# Altium schematic symbol library PBL4_GR4_SchLib.SchLib: 62 symbols
Pins are listed as number, name and electrical type; pins without a type are passive.

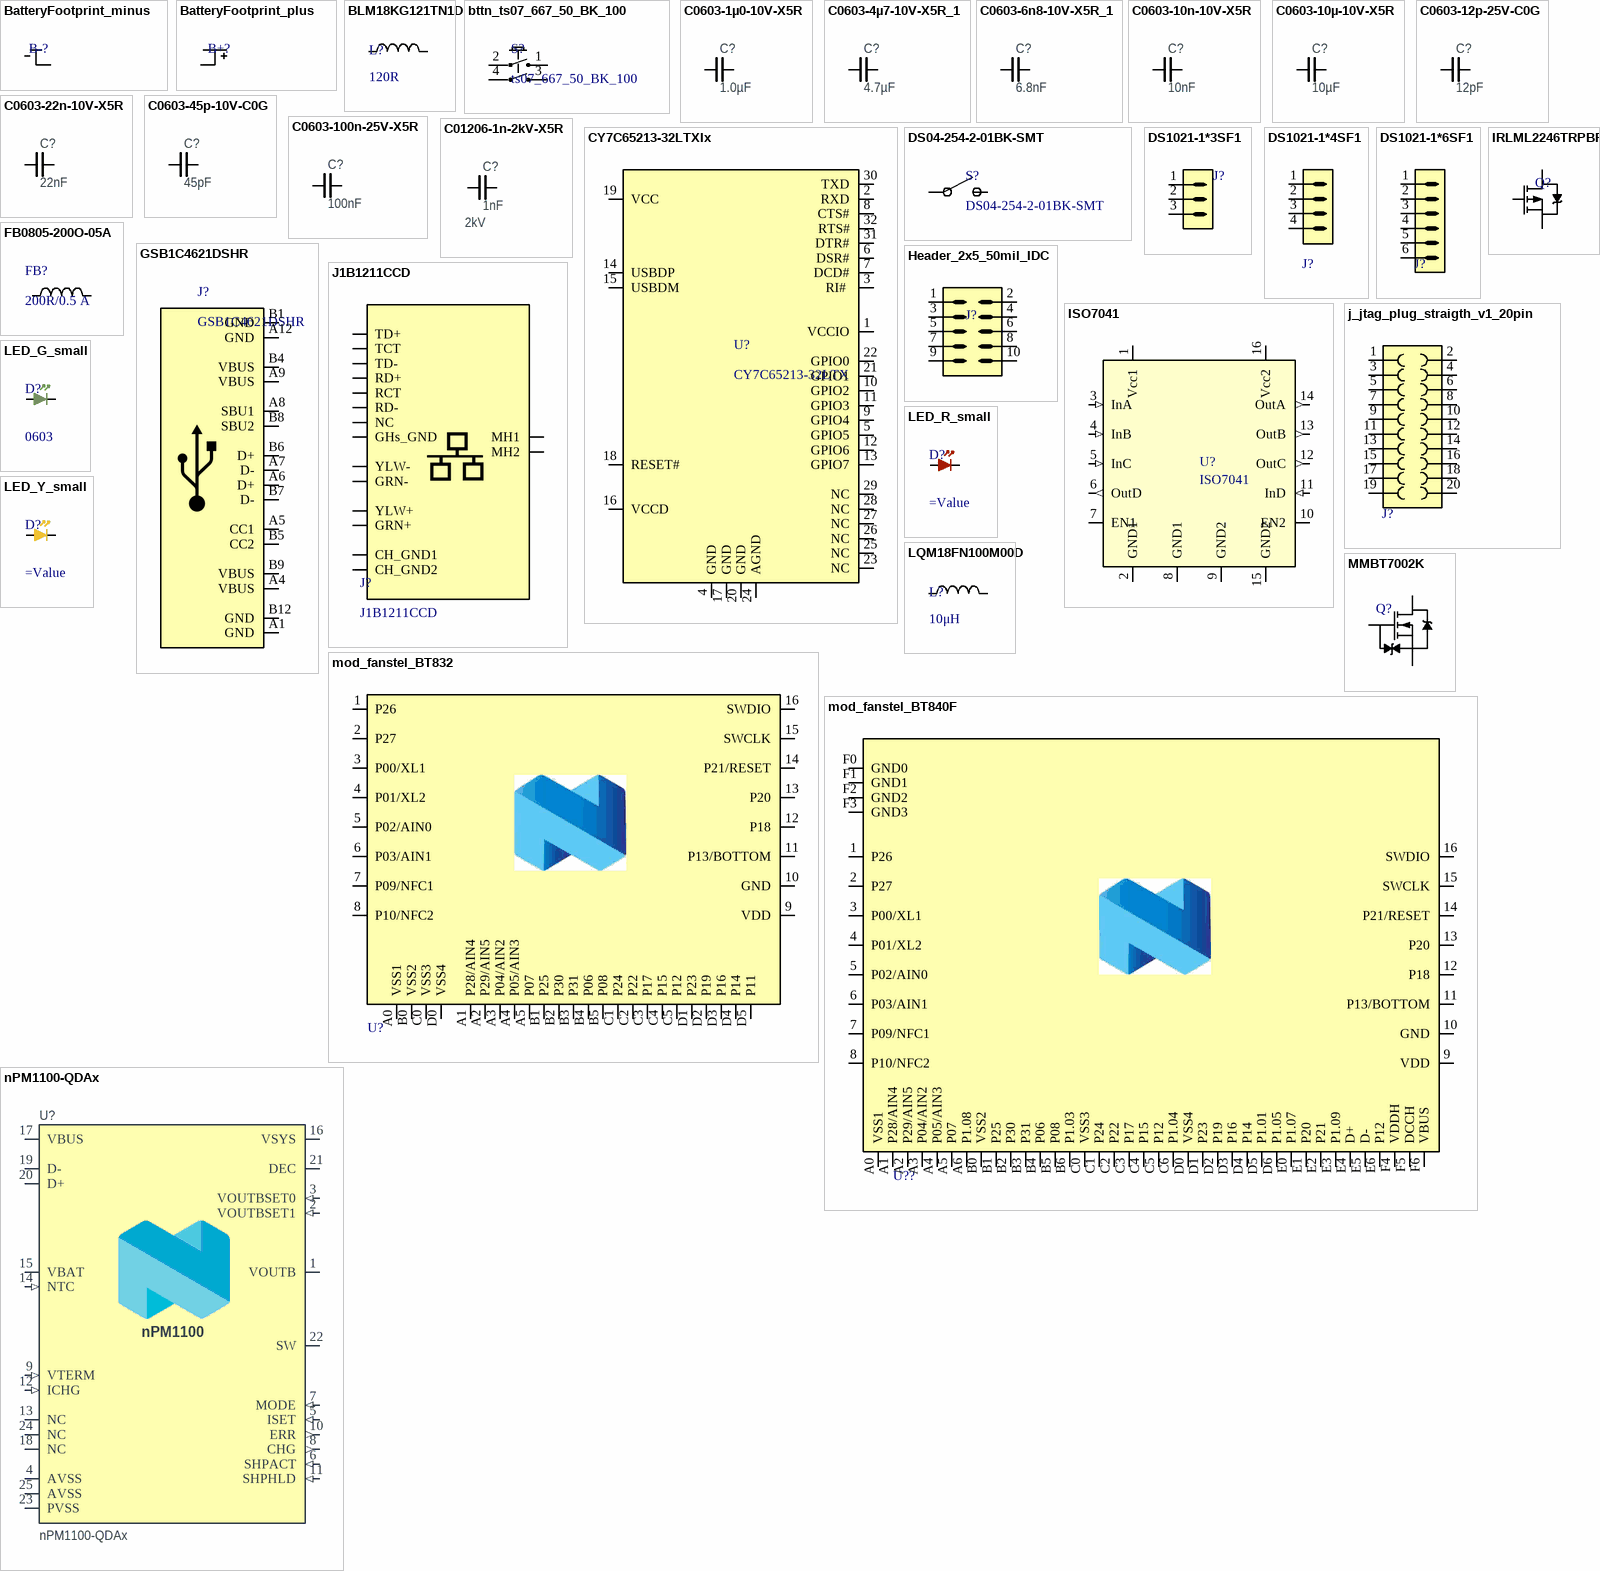
[diagram p0: symbols BatteryFootprint_minus to nPM1100-QDAx]

## BatteryFootprint_minus
designator B-?
pins: 1 -

## BatteryFootprint_plus
designator B+?
footprint 254TR
pins: 1 -

## BLM18KG121TN1D
designator L?, comment 120R
Inductor
footprint 0603_EMI_Reflow
pins: 1, 2

## bttn_ts07_667_50_BK_100
designator S?, comment ts07_667_50_BK_100
footprint SW_TS07-667-50-BK-XXX-SMT-TR
pins: 1, 2, 3, 4

## C0603-1µ0-10V-X5R
designator C?, comment 1.0µF
Capacitor, Ceramic, 1.0µF 10V X5R 0603,±10%; Part Number: C0603-1µ0-10V-X5R; Manufacturer: N.A.; Part number NEMS: 100200528; Pad Count: 2; Component Status: Active; Manufacturer Part Number: N.A.; Footprint Doc: 0603; LatestRevisionDate: 2022-10-06; Published: 2022-10-06; Value: 1.0µF; Note: 10V; Artikkelnr Noca: N.A.; Part number IPS: N.A.; ComponentLink1URL: N.A.; ComponentLink1Description: Datasheet; ComponentLink2URL: N.A.; ComponentLink2Description: Supplier link; HelpURL: N.A.; Supplier 1: N.A.; Supplier Part Number 1: N.A.; Supplier 2: N.A.; Supplier Part Number 2: N.A.; Component Class: Capacitors; PartId: 100200528; Author: getr; Part number Norautron: N.A.
footprint 0603_CAP_Reflow
pins: 1, 2

## C0603-4µ7-10V-X5R_1
designator C?, comment 4.7µF
Capacitor, Ceramic, 4.7µF 10V X5R 0603,±10%; Part Number: C0603-1µ0-10V-X5R; Manufacturer: N.A.; Part number NEMS: 100200528; Pad Count: 2; Component Status: Active; Manufacturer Part Number: N.A.; Footprint Doc: 0603; LatestRevisionDate: 2022-10-06; Published: 2022-10-06; Value: 4.7µF; Note: 10V; Artikkelnr Noca: N.A.; Part number IPS: N.A.; ComponentLink1URL: N.A.; ComponentLink1Description: Datasheet; ComponentLink2URL: N.A.; ComponentLink2Description: Supplier link; HelpURL: N.A.; Supplier 1: N.A.; Supplier Part Number 1: N.A.; Supplier 2: N.A.; Supplier Part Number 2: N.A.; Component Class: Capacitors; PartId: 100200528; Author: getr; Part number Norautron: N.A.
footprint 0603_CAP_Reflow
pins: 1, 2

## C0603-6n8-10V-X5R_1
designator C?, comment 6.8nF
Capacitor, Ceramic, X5R, ±20%, 10V; ComponentLink1URL: N.A.; ComponentLink1Description: Datasheet; ComponentLink2URL: N.A.; ComponentLink2Description: Supplier link; Value: 6.8nF; Voltage: 10V; Author: rubr
footprint 0603_CAP_Reflow
pins: 1, 2

## C0603-10n-10V-X5R
designator C?, comment 10nF
Capacitor, Ceramic, X5R, ±20%, 10V; ComponentLink1URL: N.A.; ComponentLink1Description: Datasheet; ComponentLink2URL: N.A.; ComponentLink2Description: Supplier link; Value: 10nF; Voltage: 10V; Author: rubr
footprint 0603_CAP_Reflow
pins: 1, 2

## C0603-10µ-10V-X5R
designator C?, comment 10µF
Capacitor, Ceramic, X5R, ±20%, 10V; ComponentLink1URL: N.A.; ComponentLink1Description: Datasheet; ComponentLink2URL: N.A.; ComponentLink2Description: Supplier link; Value: 10µF; Voltage: 10V; Author: rubr
footprint 0603_CAP_Reflow
pins: 1, 2

## C0603-12p-25V-C0G
designator C?, comment 12pF
Capacitor, Ceramic, C0G; Voltage: 25V; Author: rsk; ComponentLink1URL: https://search.murata.co.jp/Ceramy/image/img/A01X/G101/ENG/GRM033R61E104KE14-01.pdf; ComponentLink1Description: Datasheet; ComponentLink2URL: https://www.murata.com/en-global/products/productdetail?partno=GRM033R61E104KE14%23; ComponentLink2Description: Supplier link; Value: 12pF
footprint 0603_CAP_Reflow
pins: 1, 2

## C0603-22n-10V-X5R
designator C?, comment 22nF
Capacitor, Ceramic, X5R, ±20%, 10V; ComponentLink1URL: N.A.; ComponentLink1Description: Datasheet; ComponentLink2URL: N.A.; ComponentLink2Description: Supplier link; Value: 22nF; Voltage: 10V; Author: rubr
footprint 0603_CAP_Reflow
pins: 1, 2

## C0603-45p-10V-C0G
designator C?, comment 45pF
Capacitor, Ceramic, 45pF 10V X5R 0603,±10%; Part Number: C0603-1µ0-10V-X5R; Manufacturer: N.A.; Part number NEMS: 100200528; Pad Count: 2; Component Status: Active; Manufacturer Part Number: N.A.; Footprint Doc: 0603; LatestRevisionDate: 2022-10-06; Published: 2022-10-06; Value: 45pF; Note: 10V; Artikkelnr Noca: N.A.; Part number IPS: N.A.; ComponentLink1URL: N.A.; ComponentLink1Description: Datasheet; ComponentLink2URL: N.A.; ComponentLink2Description: Supplier link; HelpURL: N.A.; Supplier 1: N.A.; Supplier Part Number 1: N.A.; Supplier 2: N.A.; Supplier Part Number 2: N.A.; Component Class: Capacitors; PartId: 100200528; Author: getr; Part number Norautron: N.A.
footprint 0603_CAP_Reflow
pins: 1, 2

## C0603-100n-25V-X5R
designator C?, comment 100nF
Capacitor, Ceramic, X5R, ±10%, 25V; Voltage: 16V; Author: rsk; ComponentLink1URL: https://search.murata.co.jp/Ceramy/image/img/A01X/G101/ENG/GRM033R61E104KE14-01.pdf; ComponentLink1Description: Datasheet; ComponentLink2URL: https://www.murata.com/en-global/products/productdetail?partno=GRM033R61E104KE14%23; ComponentLink2Description: Supplier link; Value: 100nF
footprint 0603_CAP_Reflow
pins: 1, 2

## C01206-1n-2kV-X5R
designator C?, comment 1nF  Voltage: 2kV
Capacitor, Ceramic, X5R, ±10%, 2 kV; Author: rsk; ComponentLink1URL: https://search.murata.co.jp/Ceramy/image/img/A01X/G101/ENG/GRM033R61E104KE14-01.pdf; ComponentLink1Description: Datasheet; ComponentLink2URL: https://www.murata.com/en-global/products/productdetail?partno=GRM033R61E104KE14%23; ComponentLink2Description: Supplier link; Value: 1nF
footprint 1206_CAP_Reflow (1206)
pins: 1, 2

## CY7C65213-32LTXIx
designator U?, comment CY7C65213-32LTX
footprint Nordic_QFN50P500X500X90-33N
pins: 1 VCCIO, 2 RXD, 3 RI# , 4 GND, 5 GPIO5, 6 DSR#, 7 DCD#, 8 CTS#, 9 GPIO4, 10 GPIO2, 11 GPIO3, 12 GPIO6, 13 GPIO7, 14 USBDP, 15 USBDM, 16 VCCD, 17 GND, 18 RESET#, 19 VCC, 20 GND, 21 GPIO1, 22 GPIO0, 23 NC, 24 AGND, 25 NC, 26 NC, 27 NC, 28 NC, 29 NC, 30 TXD, 31 DTR#, 32 RTS#

## DS04-254-2-01BK-SMT
designator S?
footprint DS04-254-2-01BK-SMT (1 Position, Surface Mount, 2.54 mm Pitch, Flat Slide Actuator, Flat Bottom, SMT Pin, DIP Switch)
pins: 1, 2

## DS1021-1*3SF1
designator J?
General female 1x6 position connector
footprint DS1021-1*3SF1
pins: 1, 2, 3

## DS1021-1*4SF1
designator J?  (value not drawn)
General female 1x4 position connector; Part_Name: j_HDR_100mil_1X5_M; Manufacturer: Connfly; Value: ZL201-05G; SMDorTHT: THT; Supplier 1: TME; CreatedBy: KK; CreatedDate: 10.11.2023 11:26:45; Subcategory: HDR_M
footprint DS1021-1*4SF1
pins: 1, 2, 3, 4

## DS1021-1*6SF1
designator J?  (value not drawn)
General female 1x6 position connector; Part_Name: j_HDR_100mil_1X5_M; Manufacturer: Connfly; Value: ZL201-05G; SMDorTHT: THT; Supplier 1: TME; CreatedBy: KK; CreatedDate: 10.11.2023 11:26:45; Subcategory: HDR_M
footprint DS1021-1*6SF1
pins: 1, 2, 3, 4, 5, 6

## FB0805-200O-05A
designator FB?, comment 200R/0.5 A
200 Ohm, 0.5 A
footprint BLM21BB050SH1D
pins: 1, 2

## GSB1C4621DSHR
designator J?
Złącze USB
footprint AMPHENOL_GSB1C4621DSHR
pins: A1 GND, A4 VBUS, A5 CC1, A6 D+, A7 D-, A8 SBU1, A9 VBUS, A12 GND, B1 GND, B4 VBUS, B5 CC2, B6 D+, B7 D-, B8 SBU2, B9 VBUS, B12 GND

## Header_2x5_50mil_IDC
designator J?, comment ZL320-2X5P  (value not drawn)
footprint ZL320-2X5P
pins: 1, 2, 3, 4, 5, 6, 7, 8, 9, 10

## IRLML2246TRPBF
designator Q?  (value not drawn)
footprint SOT23
pins: 1 G, 2 D, 3 S

## ISO7041
designator U?
Ultra-Low Power Four-Channel Digital Isolator
footprint DBQ0016A (DBQ0016A SSOP - 1.75 mm max height)
pins: 1 Vcc1, 2 GND1 (power), 3 InA (in), 4 InB (in), 5 InC (in), 6 OutD (out), 7 EN1, 8 GND1 (power), 9 GND2 (power), 10 EN2, 11 InD (in), 12 OutC (out), 13 OutB (out), 14 OutA (out), 15 GND2 (power), 16 Vcc2

## J1B1211CCD
designator J?
J1B1211CCD - single RJ45 connector module with 10/100 base-TX magnetics and leds; Name: J1B1211CCD
footprint J1B1211CCD
pins: 1 CH_GND1, 2 CH_GND2, 3 YLW-, 4 YLW+, 5 TD-, 6 TD+, 7 TCT, 8 RD-, 9 RD+, 10 RCT, 11 NC, 12 MH2, 13 MH1, 14 GRN-, 15 GRN+, 16 GHs_GND

## j_jtag_plug_straigth_v1_20pin
designator J?
General female 2x10 position connector
footprint JTagConnectorStraigth
pins: 1, 2, 3, 4, 5, 6, 7, 8, 9, 10, 11, 12, 13, 14, 15, 16, 17, 18, 19, 20

## LED_G_small
designator D?, comment 0603
footprint 0603_LED_G_Reflow
pins: 1 A, 2 K

## LED_R_small
designator D?
footprint 0603_LED_R_Reflow
pins: 1 A, 2 K

## LED_Y_small
designator D?
footprint 0603_LED_Y_Reflow
pins: 1 A, 2 K

## LQM18FN100M00D
designator L?, comment 10μH
Inductor; Value: 10μH
footprint 0603_EMI_Reflow
pins: 1, 2

## MMBT7002K
designator Q?  (value not drawn)
Package: SOT-23
footprint SOT23
pins: 1 G, 2 S, 3 D

## mod_fanstel_BT832
designator U?, comment BT832F  (value not drawn)
Fanstel BT832 Nordic NRF52 Cortex-M4; Part_Name: mod_fanstel_BT832; SMDorTHT: SMD; PRODUCER: Fanstel; PRICE: 6.24; PRICE UNIT: USD; WWW: http://www.fanstel.com/bt832-bluetooth-5-module/; NAME: Fanstel BT832 Nordic NRF52 Cortex-M4; PRODUCER SN: BT832F; Value: BT832F; CreatedBy: KK; CreatedDate: 05.07.2019 22:12:20; Manufacturer: Fanstel
footprint BT832 (Small-Pads, Reduced Overlay)
footprint BT832 (Small-Pads, Reduced Overlay)
pins: 1 P26, 2 P27, 3 P00/XL1, 4 P01/XL2, 5 P02/AIN0, 6 P03/AIN1, 7 P09/NFC1, 8 P10/NFC2, 9 VDD, 10 GND, 11 P13/BOTTOM, 12 P18, 13 P20, 14 P21/RESET, 15 SWCLK, 16 SWDIO, A0 VSS1, A1 P28/AIN4, A2 P29/AIN5, A3 P04/AIN2, A4 P05/AIN3, A5 P07, B0 VSS2, B1 P25, B2 P30, B3 P31, B4 P06, B5 P08, C0 VSS3, C1 P24, C2 P22, C3 P17, C4 P15, C5 P12, D0 VSS4, D1 P23, D2 P19, D3 P16, D4 P14, D5 P11

## mod_fanstel_BT840F
designator U??, comment BT840F  (value not drawn)
Fanstel BT840F Nordic NRF52840 Cortex-M4; Part_Name: mod_fanstel_BT832; NAME: Fanstel BT832 Nordic NRF52 Cortex-M4; PRODUCER SN: BT832F; SMDorTHT: SMD; PRODUCER: Fanstel; PRICE: 6.24; PRICE UNIT: USD; WWW: http://www.fanstel.com/bt832-bluetooth-5-module/; Value: BT840F; CreatedBy: KK; CreatedDate: 05.07.2019 22:12:20; Manufacturer: Fanstel
footprint BT840F (Small-Pads, Reduced Overlay)
pins: 1 P26, 2 P27, 3 P00/XL1, 4 P01/XL2, 5 P02/AIN0, 6 P03/AIN1, 7 P09/NFC1, 8 P10/NFC2, 9 VDD, 10 GND, 11 P13/BOTTOM, 12 P18, 13 P20, 14 P21/RESET, 15 SWCLK, 16 SWDIO, A0 VSS1, A1 P28/AIN4, A2 P29/AIN5, A3 P04/AIN2, A4 P05/AIN3, A5 P07, A6 P1.08, B0 VSS2, B1 P25, B2 P30, B3 P31, B4 P06, B5 P08, B6 P1.03, C0 VSS3, C1 P24, C2 P22, C3 P17, C4 P15, C5 P12, C6 P1.04, D0 VSS4, D1 P23, D2 P19, D3 P16, D4 P14, D5 P1.01, D6 P1.05, E0 P1.07, E1 P20, E2 P21, E3 P1.09, E4 D+, E5 D-, E6 P12, F0 GND0, F1 GND1, F2 GND2, F3 GND3, F4 VDDH, F5 DCCH, F6 VBUS

## nPM1100-QDAx
designator U?
Li-Ion/Li-Polymer USB battery charger with a high efficiency buck regulator; Pad Count: 24; Footprint Doc: QFN-24; Value: nPM1100-QDAx; Component Class: nRF_Devices
footprint QFN50P400X400X80_HS-25N
pins: 1 VOUTB (power), 2 VOUTBSET1 (in), 3 VOUTBSET0 (in), 4 AVSS (power), 5 ISET (in), 6 SHPACT (in), 7 MODE (in), 8 CHG (out), 9 VTERM (in), 10 ERR (out), 11 SHPHLD (in), 12 ICHG (in), 13 NC (power), 14 NTC (in), 15 VBAT (power), 16 VSYS (power), 17 VBUS (power), 18 NC (power), 19 D- (io), 20 D+ (io), 21 DEC (power), 22 SW (power), 23 PVSS (power), 24 NC (power), 25 AVSS (power)
text: nPM1100

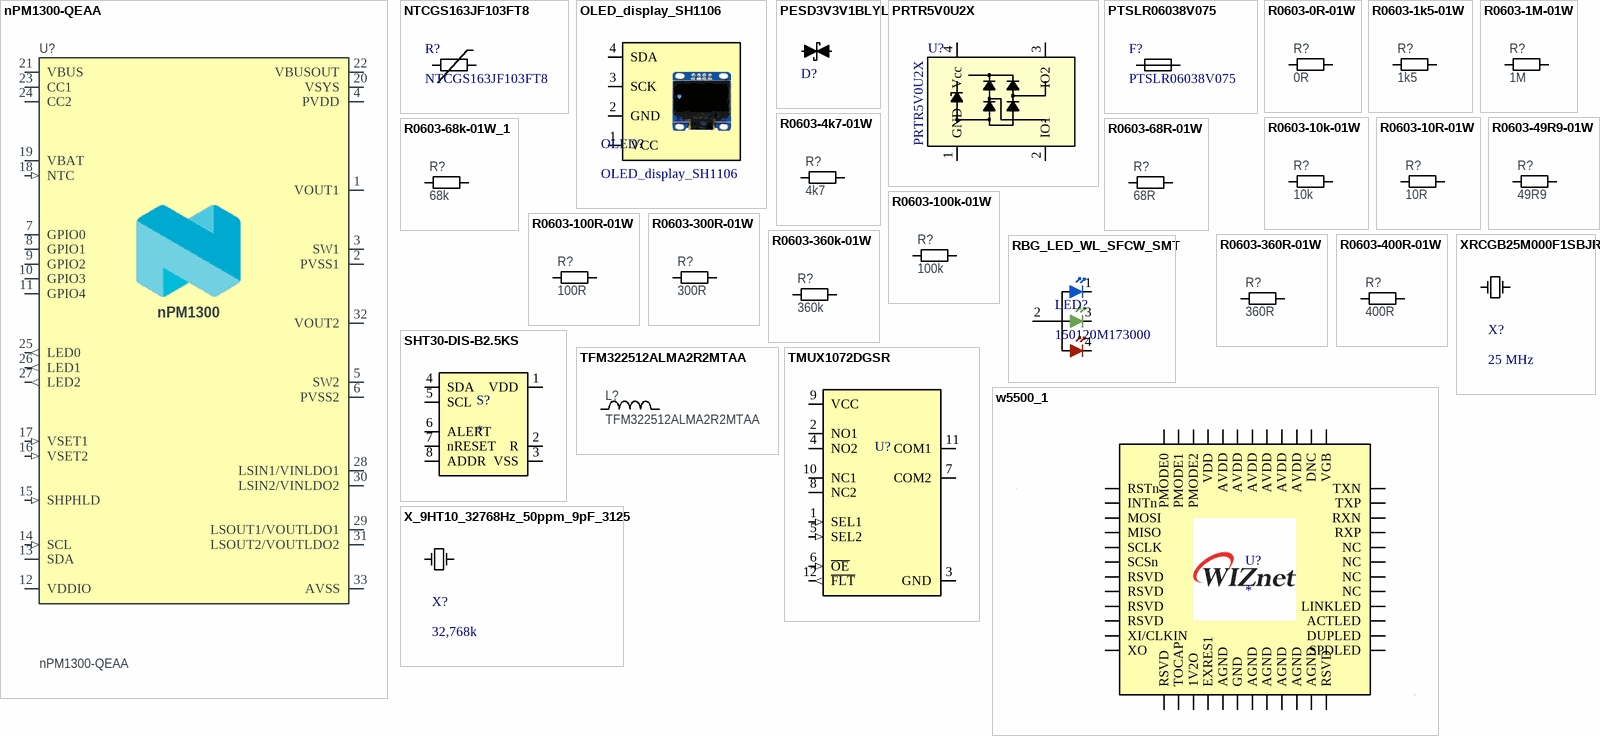
[diagram p1: symbols nPM1300-QEAA to XRCGB25M000F1SBJR0]

## nPM1300-QEAA
designator U?
Li-Ion/Li-Polymer USB-C battery charger with high efficiency buck regulators, LDOs or load switches, LED drivers, TWI and VBUSOUT; Manufacturer: Nordic Semiconductor; Part number NEMS: 102000252; Component Status: Active; Pad Count: 33; Note: N.A.; Part Number: nPM1300-QEAA; PartId: 102000252; Component Class: nRF_Devices; Author: eisk; Manufacturer Part Number: nPM1300-QEAA; ComponentLink1URL: N.A.; ComponentLink1Description: Datasheet; ComponentLink2URL: N.A.; ComponentLink2Description: Supplier link; HelpURL: N.A.; LatestRevisionDate: 2022-11-14; Published: 2022-02-17; Footprint Doc: QFN-32; Value: nPM1300-QEAA; Supplier 1: Nordic Semiconductor; Supplier Part Number 1: nPM1300-QEAA; Supplier 2: N.A.; Supplier Part Number 2: N.A.; Artikkelnr Noca: N.A.; Part number IPS: N.A.; Part number Norautron: N.A.
footprint Nordic_QFN50P500X500X90-33N
pins: 1 VOUT1 (power), 2 PVSS1 (power), 3 SW1 (power), 4 PVDD (power), 5 SW2 (power), 6 PVSS2 (power), 7 GPIO0 (io), 8 GPIO1 (io), 9 GPIO2 (io), 10 GPIO3 (io), 11 GPIO4 (io), 12 VDDIO (power), 13 SDA (oc), 14 SCL (in), 15 SHPHLD (in), 16 VSET2 (in), 17 VSET1 (in), 18 NTC (in), 19 VBAT, 20 VSYS (power), 21 VBUS (power), 22 VBUSOUT (power), 23 CC1 (io), 24 CC2 (io), 25 LED0 (out), 26 LED1 (out), 27 LED2 (out), 28 LSIN1/VINLDO1 (power), 29 LSOUT1/VOUTLDO1 (power), 30 LSIN2/VINLDO2 (power), 31 LSOUT2/VOUTLDO2 (power), 32 VOUT2 (power), 33 AVSS (power)
text: nPM1300

## NTCGS163JF103FT8
designator R?
Resistor; Value: 10k
footprint 0603_RES_Reflow
pins: 1, 2
1 alternate drawing of the same symbol

## OLED_display_SH1106
designator OLED?
footprint SS1306_OLED_0.96_NO3d
pins: 1 VCC, 2 GND, 3 SCK, 4 SDA

## PESD3V3V1BLYL
designator D?  (value not drawn)
Part_Name: d_nexperia_PESD3V3V1BLYL; Manufacturer: Nexperia; SMDorTHT: SMD; Value: PESD3V3V1BLYL; Supplier 1: Mouser; Supplier Part Number 1: 771-PESD3V3V1BLYL; HelpURL: https://www.nexperia.com/products/esd-protection-tvs-filtering-and-signal-conditioning/esd-protection/low-capacitance-esd-protection-for-high-speed-interfaces/PESD3V3V1BL.html; CreatedBy: KK; CreatedDate: 2/13/2023 10:40:36 AM; Subcategory: TVS
footprint SOD882 (DFN1006-2)
pins: 1, 2

## PRTR5V0U2X
designator U?
Ultra low capacitance double rail-to-rail ESD protection diode; Part_Name: nex_PRTR5V0U2X; Manufacturer: Nexperia; SMDorTHT: SMD; Value: PRTR5V0U2X; Supplier 1: Mouser; Supplier Part Number 1: 771-PRTR5V0U2X-T/R; HelpURL: https://www.nexperia.com/products/esd-protection-tvs-filtering-and-signal-conditioning/esd-protection/low-capacitance-esd-protection-for-high-speed-interfaces/PRTR5V0U2X.html; CreatedBy: KK; CreatedDate: 10.12.2023 11:47:43
footprint SOT143B
pins: 1 GND, 2 IO1, 3 IO2, 4 Vcc

## PTSLR06038V075
designator F?
PTC Fuse
footprint 0603_FUSE_Reflow
pins: 1, 2
1 alternate drawing of the same symbol

## R0603-0R-01W
designator R?, comment 0R
Resistor, ±1%, 0.1W, 0R; Author: rsk; ComponentLink1URL: N.A.; ComponentLink1Description: Datasheet; ComponentLink2URL: N.A.; ComponentLink2Description: Supplier link; Value: 0R; Tolerance: 1%
footprint 0603_RES_Reflow
pins: 1, 2

## R0603-1k5-01W
designator R?, comment 1k5
Resistor, ±1%, 0.1W, 1.5 kOhm; Author: rsk; ComponentLink1URL: N.A.; ComponentLink1Description: Datasheet; ComponentLink2URL: N.A.; ComponentLink2Description: Supplier link; Value: 1k5; Tolerance: 1%
footprint 0603_RES_Reflow
pins: 1, 2

## R0603-1M-01W
designator R?, comment 1M
Resistor, ±1%, 0.1W, 1 MOhm; Author: rsk; ComponentLink1URL: N.A.; ComponentLink1Description: Datasheet; ComponentLink2URL: N.A.; ComponentLink2Description: Supplier link; Value: 1M; Tolerance: 1%
footprint 0603_RES_Reflow
pins: 1, 2

## R0603-4k7-01W
designator R?, comment 4k7
Resistor, ±1%, 0.1W, 4.7 kOhm; Author: rsk; ComponentLink1URL: N.A.; ComponentLink1Description: Datasheet; ComponentLink2URL: N.A.; ComponentLink2Description: Supplier link; Value: 4k7; Tolerance: 1%
footprint 0603_RES_Reflow
pins: 1, 2

## R0603-10k-01W
designator R?, comment 10k
Resistor, ±1%, 0.1W, 10 kOhm; Author: rsk; ComponentLink1URL: N.A.; ComponentLink1Description: Datasheet; ComponentLink2URL: N.A.; ComponentLink2Description: Supplier link; Value: 10k; Tolerance: 1%
footprint 0603_RES_Reflow
pins: 1, 2

## R0603-10R-01W
designator R?, comment 10R
Resistor, ±1%, 0.1W, 10 Ohm; Author: rsk; ComponentLink1URL: N.A.; ComponentLink1Description: Datasheet; ComponentLink2URL: N.A.; ComponentLink2Description: Supplier link; Value: 10R; Tolerance: 1%
footprint 0603_RES_Reflow
pins: 1, 2

## R0603-49R9-01W
designator R?, comment 49R9
Resistor, ±1%, 0.1W, 49.9 Ohm; Author: rsk; ComponentLink1URL: N.A.; ComponentLink1Description: Datasheet; ComponentLink2URL: N.A.; ComponentLink2Description: Supplier link; Value: 49R9; Tolerance: 1%
footprint 0603_RES_Reflow
pins: 1, 2

## R0603-68k-01W_1
designator R?, comment 68k
Resistor, ±1%, 0.1W, 68 kOhm; Author: rsk; ComponentLink1URL: N.A.; ComponentLink1Description: Datasheet; ComponentLink2URL: N.A.; ComponentLink2Description: Supplier link; Value: 68k; Tolerance: 1%
footprint 0603_RES_Reflow
pins: 1, 2

## R0603-68R-01W
designator R?, comment 68R
Resistor, ±1%, 0.1W, 68 Ohm; Author: rsk; ComponentLink1URL: N.A.; ComponentLink1Description: Datasheet; ComponentLink2URL: N.A.; ComponentLink2Description: Supplier link; Value: 68R; Tolerance: 1%
footprint 0603_RES_Reflow
pins: 1, 2

## R0603-100k-01W
designator R?, comment 100k
Resistor, ±1%, 0.1W, 100 kOhm; Author: rsk; ComponentLink1URL: N.A.; ComponentLink1Description: Datasheet; ComponentLink2URL: N.A.; ComponentLink2Description: Supplier link; Value: 100k; Tolerance: 1%
footprint 0603_RES_Reflow
pins: 1, 2

## R0603-100R-01W
designator R?, comment 100R
Resistor, ±1%, 0.1W, 100 Ohm; Author: rsk; ComponentLink1URL: N.A.; ComponentLink1Description: Datasheet; ComponentLink2URL: N.A.; ComponentLink2Description: Supplier link; Value: 100R; Tolerance: 1%
footprint 0603_RES_Reflow
pins: 1, 2

## R0603-300R-01W
designator R?, comment 300R
Resistor, ±1%, 0.1W, 300 Ohm; Author: rsk; ComponentLink1URL: N.A.; ComponentLink1Description: Datasheet; ComponentLink2URL: N.A.; ComponentLink2Description: Supplier link; Value: 300R; Tolerance: 1%
footprint 0603_RES_Reflow
pins: 1, 2

## R0603-360k-01W
designator R?, comment 360k
Resistor, ±1%, 0.1W, 360 kOhm; Author: rsk; ComponentLink1URL: N.A.; ComponentLink1Description: Datasheet; ComponentLink2URL: N.A.; ComponentLink2Description: Supplier link; Value: 360k; Tolerance: 1%
footprint 0603_RES_Reflow
pins: 1, 2

## R0603-360R-01W
designator R?, comment 360R
Resistor, ±1%, 0.1W, 360 Ohm; Author: rsk; ComponentLink1URL: N.A.; ComponentLink1Description: Datasheet; ComponentLink2URL: N.A.; ComponentLink2Description: Supplier link; Value: 360R; Tolerance: 1%
footprint 0603_RES_Reflow
pins: 1, 2

## R0603-400R-01W
designator R?, comment 400R
Resistor, ±1%, 0.1W, 400 Ohm; Author: rsk; ComponentLink1URL: N.A.; ComponentLink1Description: Datasheet; ComponentLink2URL: N.A.; ComponentLink2Description: Supplier link; Value: 400R; Tolerance: 1%
footprint 0603_RES_Reflow
pins: 1, 2

## RBG_LED_WL_SFCW_SMT
designator LED?, comment 150120M173000
Wurth 150120M173000
footprint WL-SFCW-1206 (SMT Full-color Chip LED Waterclear, body 3.20 x 1.60mm)
pins: 1 K, 2 A, 3 K, 4 K

## SHT30-DIS-B2.5KS
designator S?
SHT30; Manufacturer: Sensiron; Name: SHT30-DIS-B2.5KS
footprint SHT30-DIS-B2.5KS
pins: 1 VDD "1", 2 R "2", 3 VSS "3", 4 SDA "4", 5 SCL "5", 6 ALERT "6", 7 nRESET "7", 8 ADDR "8"

## TFM322512ALMA2R2MTAA
designator L?
Inductor, Irms=520mA, Isat=580mA, ±20%, DCR=345mΩ; Part Number: L0806-2µ2-2500mA-73mOhm-CIGT201610EH2R2MNE; Manufacturer: Samsung Electro-Mechanics America; Manufacturer Part Number: CIGT201610EH2R2MNE; Part number Norautron: 26521789; Part number NEMS: 100300400; Pad Count: 2; Value: 2.2µH; Note: Unshielded Thin Film Inductor; Artikkelnr Noca: N.A.; Component Status: Active; PartId: 100300400; Component Class: Inductors; Author: rsk; ComponentLink1URL: https://media.digikey.com/pdf/Data%20Sheets/Samsung%20PDFs/CIGT201610EH2R2MNE_Spec.pdf; ComponentLink1Description: Datasheet; ComponentLink2URL: https://www.digikey.com/en/products/detail/samsung-electro-mechanics/CIGT201610EH2R2MNE/7041223?s=N4IgTCBcDaIMIEkDiAVMAGAjANk%2BgogBJgBKYAsgHL4gC6AvkA; ComponentLink2Description: Supplier link; HelpURL: http://product.samsungsem.com/pi/CIGT201610EH2R2MN.do; Footprint Doc: 0806; LatestRevisionDate: 2022-09-07; Published: 2021-02-03; Supplier 1: Digi-Key; Supplier Part Number 1: 1276-6901-1-ND; Supplier 2: Mouser; Supplier Part Number 2: 187-CIGT201610EH2R2M; Part number IPS: N.A.
footprint TMS322512ALM
pins: 1, 2

## TMUX1072DGSR
designator U?  (value not drawn)
footprint SOP50P490X110-10N
footprint DGS0010A
pins: 1 SEL1 (in), 2 NO1, 3 GND, 4 NO2, 5 SEL2 (in), 6 ~{OE} (in), 7 COM2, 8 NC2, 9 VCC, 10 NC1, 11 COM1, 12 ~{FLT} (out)

## w5500_1
designator U?
wizNET magnetic ethernet module W5500
footprint W5500
pins: 1 TXN "1", 2 TXP "2", 3 RXN "3", 4 RXP "4", 5 NC "5", 6 NC "6", 7 NC "7", 8 NC "8", 9 LINKLED "9", 10 ACTLED "10", 11 DUPLED "11", 12 SPDLED "12", 13 RSVD "13", 14 AGND "14", 15 AGND "15", 16 AGND "16", 17 AGND "17", 18 AGND "18", 19 GND "19", 20 AGND "20", 21 EXRES1 "21", 22 1V2O "22", 23 TOCAP "23", 24 RSVD "24", 25 XO "25", 26 XI/CLKIN "26", 27 RSVD "27", 28 RSVD "28", 29 RSVD "29", 30 RSVD "30", 31 SCSn "31", 32 SCLK "32", 33 MISO "33", 34 MOSI "34", 35 INTn "35", 36 RSTn "36", 37 PMODE0 "37", 38 PMODE1 "38", 39 PMODE2 "39", 40 VDD "40", 41 AVDD "41", 42 AVDD "42", 43 AVDD "43", 44 AVDD "44", 45 AVDD "45", 46 AVDD "46", 47 DNC "47", 48 VGB "48"

## X_9HT10_32768Hz_50ppm_9pF_3125
designator X?, comment 32,768k
9HT10-32.768KBZC-T; Load: 9p; Tolerance: 50ppm; Frequency: 32,768k
footprint Crystal_3215
pins: 1 OSC1, 2 OSC2

## XRCGB25M000F1SBJR0
designator X?, comment 25 MHz
XRCGB25M000F1SBJR0; Load: 9p; Tolerance: 30ppm; Frequency: 25 MHz
footprint Crystal_3215
pins: 1 OSC1, 2 OSC2